# Altium footprint library Switch.PcbLib: 3 footprints
Each footprint in its own frame and in the unit in brackets; x right, y up, seen from the top. Pads: shape width x height; smd on the part's side, far side on the other; paste and mask are expansions set on the pad; w line width, h text height; cw(c..) or ccw(c..) is an arc to the next point about the centre after c.
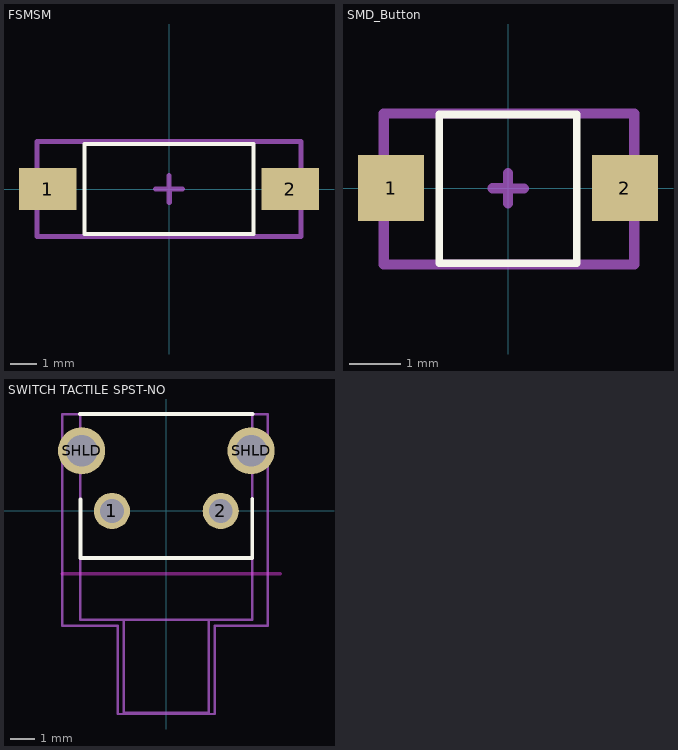
[diagram p0: the footprints below, top view; thin cyan lines are the x and y axes]

## FSMSM [mm]
pads (2):
  rect 2.18x1.6 smd: 1(-4.59,0) 2(4.59,0)
Top Overlay:
  lines w0.153: -3.2,-1.7 -3.2,1.7 3.2,1.7 3.2,-1.7 -3.2,-1.7
Top Assembly:
  lines w0.2: -5,-1.8 -5,1.8 5,1.8 5,-1.8 -5,-1.8
  text "'.Designator'" at -4.847,2.22 h0.8
Mechanical 15:
  lines w0.2: -0.5,0 0,0 0,0.5 ; 0.01,-0.5 0.01,0 ; 0.01,-0.004 0.51,-0.004 ; -5,-1.8 5,-1.8 5,1.8 -5,1.8 -5,-1.8
3D body "92f2863_fsmsm.stp": height 4.4, standoff -0.02, extent -4.985,-1.75 4.984,1.75

## SMD_Button [mm]
pads (2):
  rect 1.3x1.3 smd: 1(-2.3,0) 2(2.3,0)
Top Overlay:
  lines w0.153: -1.35,-1.475 -1.35,1.45 1.35,1.45 1.35,-1.475 -1.35,-1.475
Top Assembly:
  lines w0.2: -2.444,-1.504 -2.444,1.471 2.484,1.471 2.484,-1.504 -2.444,-1.504
  text "'.Designator'" at -2.291,1.891 h0.8
Mechanical 15:
  lines w0.2: -0.3,0 0,0 ; 0,-0.3 0,0 ; 0,0.3 0,0 ; 0.018,-0.006 0.318,-0.006 ; -2.444,-1.504 -2.444,1.471 2.484,1.471 2.484,-1.504 -2.444,-1.504
3D body "User Library-Pushbutton3x4x2.STEP": height 2, standoff 0, extent -2.45,-1.45 2.45,1.45

## SWITCH TACTILE SPST-NO [mm]
pads (4):
  round 1.498 hole 0.99: 1(-2.25,0) 2(2.25,0)
  round 1.95 hole 1.3: SHLD(-3.505,2.49) SHLD(3.505,2.49)
Top Overlay:
  lines w0.153: -3.58,4.01 3.58,4.01 ; -3.555,0.485 -3.555,-1.945 3.555,-1.945 3.555,0.5
Keep-Out Layer:
  lines w0.153: -4.3,-2.6 4.7,-2.6
Top Assembly:
  lines w0.1: -1.755,-4.495 -1.755,-8.35 1.755,-8.35 1.755,-4.495 ; -1.755,-4.495 -3.555,-4.495 -3.555,4 3.555,4 3.555,-4.495 1.755,-4.495 ; -1.755,-4.495 1.755,-4.495
  text "'.Designator'" at -3.402,4.43 h0.8
Mechanical 15:
  lines w0.1: -4.3,-4.755 -4.3,4 4.2,4 4.2,-4.755 2.005,-4.755 2.005,-8.4 -2.005,-8.4 -2.005,-4.755 -4.3,-4.755
3D body "1-1825027-1--3DModel-STEP-56544.STEP": height 7.01, standoff -3.51, extent -4.251,-8.426 4.154,3.944